# Altium footprint library TFT_display_3.5in.PcbLib: 1 footprints
Each footprint in its own frame and in the unit in brackets; x right, y up, seen from the top. Pads: shape width x height; smd on the part's side, far side on the other; paste and mask are expansions set on the pad; w line width, h text height; cw(c..) or ccw(c..) is an arc to the next point about the centre after c.
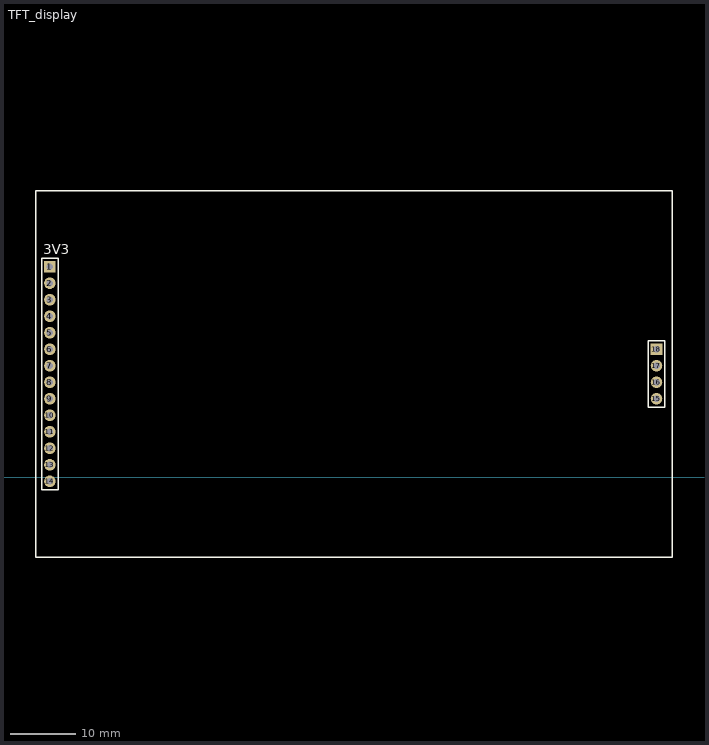
[diagram p0: the footprint, top view; thin cyan lines are the x and y axes]

## TFT_display [mil]
pads (18):
  rect 70x70 hole 40: 1(455,1275) 18(4130,775)
  round 70 hole 40: 2(455,1175) 3(455,1075) 4(455,975) 5(455,875) 6(455,775) 7(455,675) 8(455,575) 9(455,475) 10(455,375) 11(455,275) 12(455,175) 13(455,75) 14(455,-25) 15(4130,475) 16(4130,575) 17(4130,675)
Top Overlay:
  lines w7.87: 405,-75 405,325 405,1325 505,1325 505,1250 505,325 505,-75 405,-75 ; 4080,425 4080,825 4180,825 4180,425 4080,425
  lines w10: 370,-485 4225,-485 4225,1735 370,1735 370,-485
  text "3V3" at 415,1350 h60
3D body "3.5 TFT Module - No Glass.stp": height 323.84, standoff -151, extent 370,-484 4228,1734